# EAGLE library part R-ISO-4 (library Skoba)
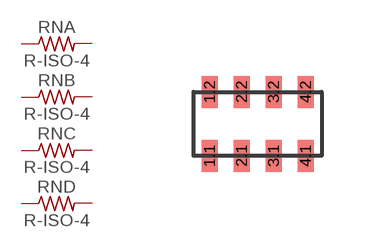
[diagram p43: symbol with the pads of RES-ARRAY-1206; footprint RES-ARRAY-1206]

Designator prefix RN; gates A=R-US B=R-US C=R-US D=R-US

## R-ISO-41206  [RES-ARRAY-1206]
1.1  A:1  pas
1.2  A:2  pas
2.1  B:1  pas
2.2  B:2  pas
3.1  C:1  pas
3.2  C:2  pas
4.1  D:1  pas
4.2  D:2  pas

## Footprint RES-ARRAY-1206 (pad centres in mm)
smd 0.4 x 0.8: 1.1 -1.2,-0.8; 1.2 -1.2,0.8; 2.1 -0.4,-0.8; 2.2 -0.4,0.8; 3.1 0.4,-0.8; 3.2 0.4,0.8; 4.1 1.2,-0.8; 4.2 1.2,0.8